# Altium schematic symbol library Minuterie_SCH.SchLib: 14 symbols
Pins are listed as number, name and electrical type; pins without a type are passive.

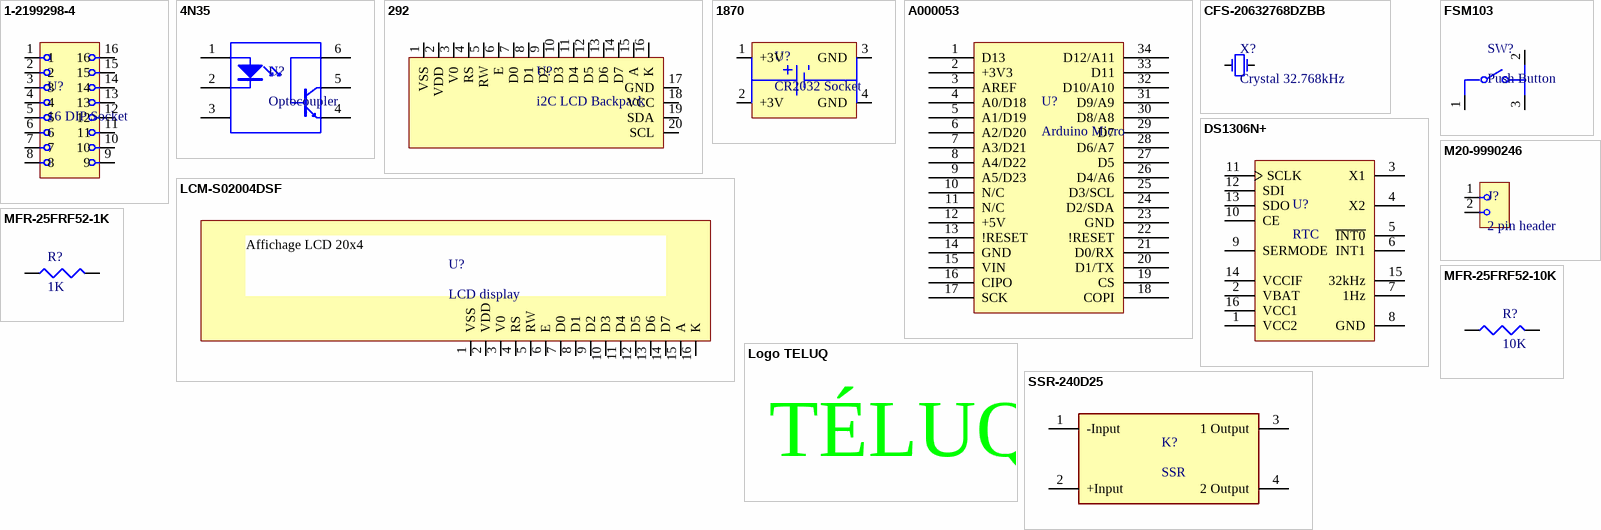
[diagram p0: symbols 1-2199298-4 to SSR-240D25]

## 1-2199298-4
designator U?, comment 16 DIP Socket
DIP Socket Connector, 16 Position, 2 Row, 7.62 mm Pitch, Diplomate Series; Manufacturer: TE Connectivity; Manufacturer Part Number: 1-2199298-4; Number of Contacts: 16; Contact Resistance: 20mR; Connector Type: Pin; Insulation Resistance: 1GR; Mating Alignment: Yes (With); Contact Current Rating: 1A; Pitch: 2.54mm; Row Spacing: 0.3inch; Contact Post Length: 3inch; Supplier 1: Digi-Key; RoHS: Yes; Category: IC and Component Sockets; Stock 1: 6797; Pricing 1: 1=0.27000, 10=0.23200, 25=0.20400, 40=0.18750, 80=0.18013, 230=0.16174, 440=0.15436, 945=0.12865, 2400=0.11762 (USD); Mount: Through Hole; Contact Material: Bronze; Contact Plating: Tin; Color: Black; Housing Material: PBT; Min Operating Temperature: -40°C; Max Operating Temperature: 105°C; Packaging: Rail/Tube; Number of Rows: 2; Termination: Through Hole; Orientation: Straight; Number of Positions: 16; Package Quantity: 30; Length: 0.8inch; Lead Pitch: 2.54mm; Depth: 10mm; Radiation Hardening: No; REACH SVHC: Unknown; Flammability Rating: UL94 V-0; ELV: Compliant; RoHS Compliant: Yes; ComponentLink1URL: http://components.arrow.com/part/dataview/65917491S799835N5665?src-supplier=Arrow+Electronics; ComponentLink1Description: http://components.arrow.com/part/dataview/65917491S799835N5665?src-supplier=Arrow+Electronics; ComponentLink2URL: http://www.te.com/commerce/DocumentDelivery/DDEController?Action=showdoc&DocId=Customer+Drawing%7F2199298%7FA%7Fpdf%7FEnglish%7FENG_CD_2199298_A_baseFilename.pdf%7F1-2199298-4&src-supplier=Avnet; ComponentLink2Description: http://www.te.com/commerce/DocumentDelivery/DDEController?Action=showdoc&DocId=Customer+Drawing%7F2199298%7FA%7Fpdf%7FEnglish%7FENG_CD_2199298_A_baseFilename.pdf%7F1-2199298-4&src-supplier=Avnet; ComponentLink3URL: https://www.te.com/commerce/DocumentDelivery/DDEController?Action=srchrtrv&amp;DocNm=2199298&amp;DocType=Customer+Drawing&amp;DocLang=English&src-supplier=Digi-Key; ComponentLink3Description: https://www.te.com/commerce/DocumentDelivery/DDEController?Action=srchrtrv&amp;DocNm=2199298&amp;DocType=Customer+Drawing&amp;DocLang=English&src-supplier=Digi-Key; Supplier Part Number 1: A120349-ND
footprint DIP16
pins: 1, 2, 3, 4, 5, 6, 7, 8, 9, 10, 11, 12, 13, 14, 15, 16

## 4N35
designator U?, comment Optocoupler
Single Channel 80 V 5000 Vrms Phototransistor Optocoupler Through Hole - DIP-6; Manufacturer: Vishay; Manufacturer Part Number: 4N35; Max Power Dissipation: 70mW; Number of Channels: 1; Isolation Voltage: 5kV; Output Voltage: 30V; Forward Voltage: 1.5V; Collector Emitter Voltage (VCEO): 70V; Max Input Current: 60mA; Reverse Breakdown Voltage: 6V; Forward Current: 50mA; Collector Emitter Saturation Voltage: 300mV; Rise Time: 3us; Input Current: 10mA; Input Type: DC; Isolation Voltage-Max: 5.3kV; Current Transfer Ratio: 50%; Output Current per Channel: 100mA; Approvals: UL,BSI,FIMKO; Supplier 1: Digi-Key; RoHS: Yes; Category: Optocouplers; Stock 1: 2871; Pricing 1: 1=0.55000, 10=0.47300, 100=0.35320, 500=0.27750, 1000=0.21444, 2000=0.19552, 5000=0.18290, 10000=0.17850 (USD); Mount: Through Hole; Case/Package: DIP; Number of Pins: 6; Min Operating Temperature: -55°C; Max Operating Temperature: 100°C; Packaging: Rail/Tube; Package Quantity: 2000; Power Dissipation: 70mW; Max Output Voltage: 30V; Number of Elements: 1; Series: -; Number of Circuits: 1; Collector-emitter Voltage-Max: 300mV; Max Collector Current: 100mA; Collector Emitter Breakdown Voltage: 30V; Reverse Voltage (DC): 6V; Radiation Hardening: No; Lead Free: Lead Free; RoHS Compliant: Yes; REACH SVHC: Unknown; ComponentLink1URL: https://datasheet.ciiva.com/1247/1693303-1247044.pdf?src-supplier=Element14; ComponentLink1Description: https://datasheet.ciiva.com/1247/1693303-1247044.pdf?src-supplier=Element14; ComponentLink2URL: https://datasheet.ciiva.com/26321/60647-26321011.pdf?src-supplier=Element14; ComponentLink2Description: https://datasheet.ciiva.com/26321/60647-26321011.pdf?src-supplier=Element14; ComponentLink3URL: https://datasheet.ciiva.com/15118/getdatasheetpartid-89490-15118529.pdf?src-supplier=Verical; ComponentLink3Description: https://datasheet.ciiva.com/15118/getdatasheetpartid-89490-15118529.pdf?src-supplier=Verical; ComponentLink4URL: https://datasheet.ciiva.com/11771/0900766b80dca9c8-11771779.pdf?src-supplier=RSComponents; ComponentLink4Description: https://datasheet.ciiva.com/11771/0900766b80dca9c8-11771779.pdf?src-supplier=RSComponents; ComponentLink5URL: https://datasheet.ciiva.com/29301/152890-da-01-en-optocoupler-4n35-29301371.pdf?src-supplier=Conrad; ComponentLink5Description: https://datasheet.ciiva.com/29301/152890-da-01-en-optocoupler-4n35-29301371.pdf?src-supplier=Conrad; ComponentLink6URL: https://datasheet.ciiva.com/2086/s-110-4n354n37m-s-s-ta1rev-2086319.pdf?src-supplier=Digi-Key; ComponentLink6Description: https://datasheet.ciiva.com/2086/s-110-4n354n37m-s-s-ta1rev-2086319.pdf?src-supplier=Digi-Key; ComponentLink7URL: https://datasheet.ciiva.com/14105/4n35-7-eng-tds-14105851.pdf?src-supplier=Distrelec; ComponentLink7Description: https://datasheet.ciiva.com/14105/4n35-7-eng-tds-14105851.pdf?src-supplier=Distrelec; ComponentLink8URL: https://datasheet.ciiva.com/3305/4n35-3305941.pdf?src-supplier=Avnet; ComponentLink8Description: https://datasheet.ciiva.com/3305/4n35-3305941.pdf?src-supplier=Avnet; ComponentLink9URL: https://datasheet.ciiva.com/16317/4n35-16317882.pdf?src-supplier=Future+Electronics; ComponentLink9Description: https://datasheet.ciiva.com/16317/4n35-16317882.pdf?src-supplier=Future+Electronics; ComponentLink10URL: https://datasheet.ciiva.com/25900/4n35-25900614.pdf?src-supplier=Avnet+Europe; ComponentLink10Description: https://datasheet.ciiva.com/25900/4n35-25900614.pdf?src-supplier=Avnet+Europe; ComponentLink11URL: https://datasheet.ciiva.com/2087/4n35-2087114.pdf?src-supplier=Digi-Key; ComponentLink11Description: https://datasheet.ciiva.com/2087/4n35-2087114.pdf?src-supplier=Digi-Key; ComponentLink12URL: https://datasheet.ciiva.com/1333/1533488-1333901.pdf?src-supplier=Newark; ComponentLink12Description: https://datasheet.ciiva.com/1333/1533488-1333901.pdf?src-supplier=Newark
footprint DIP6
pins: 1 A, 2 C, 3 NC, 4 E, 5 C, 6 B

## 292
designator U?, comment i2C LCD Backpack
i2c / SPI character LCD backpack ;RoHS Compliant: Yes; Manufacturer: Adafruit Industries; Manufacturer Part Number: 292; Supplier 1: Digi-Key; RoHS: Yes; Category: Optoelectronics; Stock 1: 105; Pricing 1: 1=9.95000 (USD); Series: -; ComponentLink1URL: http://www.alliedelec.com/m/d/fbf915f4a11a953f4c276fdc61ad8095.pdf?src-supplier=Allied+Electronics; ComponentLink1Description: http://www.alliedelec.com/m/d/fbf915f4a11a953f4c276fdc61ad8095.pdf?src-supplier=Allied+Electronics; ComponentLink2URL: https://learn.adafruit.com/downloads/pdf/i2c-spi-lcd-backpack.pdf?src-supplier=Digi-Key; ComponentLink2Description: https://learn.adafruit.com/downloads/pdf/i2c-spi-lcd-backpack.pdf?src-supplier=Digi-Key; Supplier Part Number 1: 1528-1446-ND
pins: 1 VSS, 2 VDD, 3 V0, 4 RS, 5 RW, 6 E, 7 D0, 8 D1, 9 D2, 10 D3, 11 D4, 12 D5, 13 D6, 14 D7, 15 A, 16 K, 17 GND, 18 VCC, 19 SDA, 20 SCL

## 1870
designator U?, comment CR2032 Socket
Heyco RDD Lockit Strain Relief Bushings Straight-Thru RDD 101A BLACK; Manufacturer: Adafruit Industries; Manufacturer Part Number: 1870; Supplier 1: Digi-Key; RoHS: Yes; Category: Connectors; Stock 1: 500; Pricing 1: 1=2.50000 (USD); Supplier Part Number 1: 1528-2012-ND
footprint Battery socket
pins: 1 +3V, 2 +3V, 3 GND, 4 GND

## A000053
designator U?, comment Arduino Micro
ATmega32u4 Microcontroller Micro Development Board 16MHz CPU 2.5KB RAM 1KB/32KB EEPROM/Flash; Manufacturer Part Number: A000053; Core Architecture: AVR; Evaluation Kit: Yes; Number of Bits: 8; Interface: USB; Data Bus Width: 8b; Operating Supply Voltage: 5V; Supplier 1: Digi-Key; Manufacturer: Arduino; RoHS: Yes; Category: Embedded Processors and Controllers; Stock 1: 535; Pricing 1: 1=20.70000 (USD); Weight: 0.02lb; Package Quantity: 1; Series: AVR® ATmega; Length: 2inch; Width: 1inch; Height: 0.05inch; REACH SVHC: Unknown; ComponentLink1URL: https://datasheet.ciiva.com/29354/a000053-web-29354346.pdf?src-supplier=Digi-Key; ComponentLink1Description: https://datasheet.ciiva.com/29354/a000053-web-29354346.pdf?src-supplier=Digi-Key; ComponentLink2URL: https://datasheet.ciiva.com/20168/73-4614-20168561.pdf?src-supplier=Rapid+Electronics; ComponentLink2Description: https://datasheet.ciiva.com/20168/73-4614-20168561.pdf?src-supplier=Rapid+Electronics; ComponentLink3URL: https://datasheet.ciiva.com/27059/2207700-27059801.pdf?src-supplier=Jameco; ComponentLink3Description: https://datasheet.ciiva.com/27059/2207700-27059801.pdf?src-supplier=Jameco; ComponentLink4URL: https://datasheet.ciiva.com/22632/1685581-22632353.pdf?src-supplier=Element14; ComponentLink4Description: https://datasheet.ciiva.com/22632/1685581-22632353.pdf?src-supplier=Element14; ComponentLink5URL: https://datasheet.ciiva.com/14175/micro-eng-tds-14175737.pdf?src-supplier=Distrelec; ComponentLink5Description: https://datasheet.ciiva.com/14175/micro-eng-tds-14175737.pdf?src-supplier=Distrelec; ComponentLink6URL: https://datasheet.ciiva.com/25630/0900766b8119187a-25630646.pdf?src-supplier=RSComponents; ComponentLink6Description: https://datasheet.ciiva.com/25630/0900766b8119187a-25630646.pdf?src-supplier=RSComponents; Supplier Part Number 1: 1050-1066-ND
footprint Micro-C
pins: 1 D13, 2 +3V3, 3 AREF, 4 A0/D18, 5 A1/D19, 6 A2/D20, 7 A3/D21, 8 A4/D22, 9 A5/D23, 10 N/C, 11 N/C, 12 +5V, 13 !RESET, 14 GND, 15 VIN, 16 CIPO, 17 SCK, 18 COPI, 19 CS, 20 D1/TX, 21 D0/RX, 22 !RESET, 23 GND, 24 D2/SDA, 25 D3/SCL, 26 D4/A6, 27 D5, 28 D6/A7, 29 D7, 30 D8/A8, 31 D9/A9, 32 D10/A10, 33 D11, 34 D12/A11

## CFS-20632768DZBB
designator X?, comment Crystal 32.768kHz
Crystal 0.032768MHz ±20ppm (Tol) 6pF Flexural 35000Ohm 2-Pin Thru-Hole Bulk; Manufacturer: Citizen; Manufacturer Part Number: CFS-20632768DZBB; ESR (Equivalent Series Resistance): 35kR; Supplier 1: Digi-Key; RoHS: Yes; Category: Crystals; Stock 1: 136913; Pricing 1: 1=0.26000, 10=0.22000, 50=0.19800, 100=0.17600, 500=0.16720, 1000=0.14080, 2500=0.13200, 5000=0.12760, 10000=0.12320 (USD); Mount: Through Hole; Case/Package: Radial; Min Operating Temperature: -20°C; Max Operating Temperature: 70°C; Load Capacitance: 6pF; Packaging: Bulk; Frequency: 32.768kHz; Frequency Tolerance: 20ppm; Lead Free: Lead Free; RoHS Compliant: Yes; ComponentLink1URL: http://cfd.citizen.co.jp/english/prod-tech/product/pdf/datasheet_TF/CFS-206_CFS-145_E.pdf?src-supplier=Digi-Key; ComponentLink1Description: http://cfd.citizen.co.jp/english/prod-tech/product/pdf/datasheet_TF/CFS-206_CFS-145_E.pdf?src-supplier=Digi-Key; Supplier Part Number 1: 300-8301-ND
footprint Crystal
pins: 1 X1, 2 X2

## DS1306N+
designator U?, comment RTC
DS1306 Series 2 to 5.5 V 96B Battery-Backed NV RAM Serial Alarm RTC - DIP-16; Manufacturer: Maxim; Manufacturer Part Number: DS1306N+; Time Format: HH:MM:SS; Interface: SPI; Logic Function: Clock; Date Format: YY-MM-DD-dd; Max Supply Voltage: 5.5V; Min Supply Voltage: 2V; Supplier 1: Newark; RoHS: Yes; Category: Real Time Clocks; Stock 1: 3; Pricing 1: 1=7.69000, 10=6.94000, 25=6.62000, 50=6.19000, 100=5.75000, 250=5.49000 (USD); Mount: Through Hole; Case/Package: DIP; Number of Pins: 16; Min Operating Temperature: 0°C; Max Operating Temperature: 70°C; Package Quantity: 25; Packaging: Rail/Tube; Memory Size: 96B; Series: -; Length: 19.43mm; Width: 7.87mm; Height: 4.45mm; Radiation Hardening: No; Lead Free: Lead Free; RoHS Compliant: Yes; REACH SVHC: Unknown; ComponentLink1URL: https://datasheet.ciiva.com/26795/ds1306n-26795569.pdf?src-supplier=IIIC; ComponentLink1Description: https://datasheet.ciiva.com/26795/ds1306n-26795569.pdf?src-supplier=IIIC; ComponentLink2URL: https://datasheet.ciiva.com/3304/ds1306-3304455.pdf?src-supplier=Avnet; ComponentLink2Description: https://datasheet.ciiva.com/3304/ds1306-3304455.pdf?src-supplier=Avnet; ComponentLink3URL: https://datasheet.ciiva.com/1240/ds1306-1240611.pdf?src-supplier=Digi-Key; ComponentLink3Description: https://datasheet.ciiva.com/1240/ds1306-1240611.pdf?src-supplier=Digi-Key; Supplier Part Number 1: 73Y1205
footprint DIP16
pins: 1 VCC2 (power), 2 VBAT (power), 3 X1, 4 X2, 5 ~{INT0} (oc), 6 INT1, 7 1Hz (oc), 8 GND (power), 9 SERMODE, 10 CE, 11 SCLK, 12 SDI, 13 SDO, 14 VCCIF (power), 15 32kHz, 16 VCC1 (power)

## FSM103
designator SW?, comment Push Button
Switch Tactile OFF (ON) SPST Round Button PC Pins 0.05A 24VDC 1.57N Thru-Hole Loose; Manufacturer: TE Connectivity Alcoswitch; Manufacturer Part Number: FSM103; Mechanical Life: 100000Cycles; Actuator Color: Black; Actuator Material: Polyester; Current Rating: 50mA; Voltage Rating (DC): 12V; Illumination Type: Non-Illuminated; Switch Travel: 0.3mm; Switch Function: Off-Mom; Contact Resistance: 100mR; Voltage Rating: 24V; Actuator Length: 3.4mm; Supplier 1: Digi-Key; RoHS: Yes; Category: Uncategorized; Stock 1: 1345; Pricing 1: 1=0.38000, 10=0.36900, 25=0.34720, 100=0.30150, 250=0.27348, 500=0.25440, 1000=0.22896, 2500=0.21497, 5000=0.19970 (USD); Mount: Through Hole; Contact Material: Brass; Contact Plating: Silver; Min Operating Temperature: -35°C; Max Operating Temperature: 85°C; Packaging: Loose Piece; Operating Force: 1.57N; Package Quantity: 400; Throw Configuration: SPST; Termination: PC Pins; Max Voltage Rating (DC): 12V; Series: FSM100 ~ 104; Contact Current Rating: 50mA; Orientation: Straight; Max Current Rating: 50mA; Electrical Life: 100000Cycles; Type: Switch; Length: 12mm; Width: 12mm; Depth: 14.1mm; Radiation Hardening: No; RoHS Compliant: Yes; REACH SVHC: Unknown; ComponentLink1URL: https://datasheet.ciiva.com/8661/eng-cd-1437565-5-d-8661873.pdf?src-supplier=Avnet; ComponentLink1Description: https://datasheet.ciiva.com/8661/eng-cd-1437565-5-d-8661873.pdf?src-supplier=Avnet; ComponentLink2URL: https://datasheet.ciiva.com/2899/eng-cd-1437565-5-e2-2899955.pdf?src-supplier=Digi-Key; ComponentLink2Description: https://datasheet.ciiva.com/2899/eng-cd-1437565-5-e2-2899955.pdf?src-supplier=Digi-Key; ComponentLink3URL: https://datasheet.ciiva.com/5809/eng-cd-1437565-5-e2-5809302.pdf?src-supplier=Farnell; ComponentLink3Description: https://datasheet.ciiva.com/5809/eng-cd-1437565-5-e2-5809302.pdf?src-supplier=Farnell; ComponentLink4URL: https://datasheet.ciiva.com/16534/eng-cd-1437565-5-d-16534933.pdf?src-supplier=Avnet+Europe; ComponentLink4Description: https://datasheet.ciiva.com/16534/eng-cd-1437565-5-d-16534933.pdf?src-supplier=Avnet+Europe; ComponentLink5URL: https://datasheet.ciiva.com/31838/eng-cat-1308390-0904-e15-e25-31838910.pdf?src-supplier=Onlinecomponents.com; ComponentLink5Description: https://datasheet.ciiva.com/31838/eng-cat-1308390-0904-e15-e25-31838910.pdf?src-supplier=Onlinecomponents.com; ComponentLink6URL: https://datasheet.ciiva.com/7635/921681-7635435.pdf?src-supplier=Element14; ComponentLink6Description: https://datasheet.ciiva.com/7635/921681-7635435.pdf?src-supplier=Element14; Supplier Part Number 1: 450-1158-ND
footprint Push button
pins: 1, 2, 3

## LCM-S02004DSF
designator U?, comment LCD display
LCD Character Display Modules Gray Transflective Yl/Grn LED Backlight; Manufacturer: Lumex; Manufacturer Part Number: LCM-S02004DSF; Interface: Parallel; Number of Characters: 80; Background Color: Green; Operating Supply Voltage: 5V; Fluid Type: STN; Illumination Color: Yellow; Character Height: 4.75mm; Character Width: 2.95mm; Voltage Rating: 4.5V; Current Rating: 600mA; Number Of Characters Per Row: 20; Viewing Area (height): 26.3mm; Viewing Area (width): 77mm; Supplier 1: Digi-Key; RoHS: Yes; Category: LCD, OLED, Graphic Displays; Stock 1: 191; Pricing 1: 1=36.89000, 10=28.88400, 100=25.22990 (USD); Case/Package: Module; Weight: 0.0025lb; Min Operating Temperature: 0°C; Max Operating Temperature: 50°C; Backlight Type: LED; Package Quantity: 60; Packaging: Bulk; Length: 0.025inch; Width: 98mm; Height: 60mm; REACH SVHC: No SVHC; Lead Free: Lead Free; RoHS Compliant: Yes; ComponentLink1URL: https://datasheet.ciiva.com/2102/lcm-s02004dsf-2102223.pdf?src-supplier=Digi-Key; ComponentLink1Description: https://datasheet.ciiva.com/2102/lcm-s02004dsf-2102223.pdf?src-supplier=Digi-Key; ComponentLink2URL: https://datasheet.ciiva.com/1227/209734-1227267.pdf?src-supplier=Element14; ComponentLink2Description: https://datasheet.ciiva.com/1227/209734-1227267.pdf?src-supplier=Element14; ComponentLink3URL: https://datasheet.ciiva.com/1227/209734-1227268.pdf?src-supplier=Element14; ComponentLink3Description: https://datasheet.ciiva.com/1227/209734-1227268.pdf?src-supplier=Element14; ComponentLink4URL: https://datasheet.ciiva.com/14569/70127579-14569930.pdf?src-supplier=Allied+Electronics; ComponentLink4Description: https://datasheet.ciiva.com/14569/70127579-14569930.pdf?src-supplier=Allied+Electronics; Supplier Part Number 1: 67-1763-ND
pins: 1 VSS, 2 VDD, 3 V0, 4 RS, 5 RW, 6 E, 7 D0, 8 D1, 9 D2, 10 D3, 11 D4, 12 D5, 13 D6, 14 D7, 15 A, 16 K
text: Affichage LCD 20x4

## Logo TELUQ
designator *  (value not drawn)
footprint Logo TELQUQ
text: TÉLUQ

## M20-9990246
designator J?, comment 2 pin header
2.54mm (0.1") Pitch SIL Vertical PC Tail Pin Header, 6.1mm mating pin height, tin, 2 contacts; Manufacturer: Harwin; Manufacturer Part Number: M20-9990246; Max Current Rating: 3A; Number of Positions: 2; Gender: Male; Connector Type: Male Pin; Contact Resistance: 30mR; Insulation Resistance: 10GR; Voltage Rating (AC): 750V; Supplier 1: Digi-Key; RoHS: Yes; Category: Headers and Wire Housings; Stock 1: 37006; Pricing 1: 1=0.13000, 10=0.10300, 100=0.07610, 500=0.06300, 1000=0.05512, 5000=0.04725, 10000=0.04594 (USD); Mount: Through Hole; Case/Package: SIL; Contact Plating: Tin; Color: Black; Contact Material: Brass,Bronze; Housing Color: Black; Housing Material: Nylon; Min Operating Temperature: -40°C; Max Operating Temperature: 105°C; Number of Rows: 1; Package Quantity: 1000; Packaging: Bulk; Termination: Solder; Number of Contacts: 2; Orientation: Straight; Series: M20; Contact Type: Male Pin; Current Rating: 3A; Length: 5.08mm; Pitch: 2.54mm; Depth: 2.54mm; Contact Mating Length: 0.24inch; Radiation Hardening: No; REACH SVHC: No SVHC; ComponentLink1URL: https://datasheet.ciiva.com/22660/1830818-22660571.pdf?src-supplier=Element14; ComponentLink1Description: https://datasheet.ciiva.com/22660/1830818-22660571.pdf?src-supplier=Element14; ComponentLink2URL: https://datasheet.ciiva.com/11745/0900766b81034e61-11745755.pdf?src-supplier=RSComponents; ComponentLink2Description: https://datasheet.ciiva.com/11745/0900766b81034e61-11745755.pdf?src-supplier=RSComponents; ComponentLink3URL: https://datasheet.ciiva.com/8046/315376-8046930.pdf?src-supplier=Element14; ComponentLink3Description: https://datasheet.ciiva.com/8046/315376-8046930.pdf?src-supplier=Element14; ComponentLink4URL: https://datasheet.ciiva.com/6833/m20-999-6833368.pdf?src-supplier=Digi-Key; ComponentLink4Description: https://datasheet.ciiva.com/6833/m20-999-6833368.pdf?src-supplier=Digi-Key; ComponentLink5URL: https://datasheet.ciiva.com/26852/getdatasheetpartid-384170-26852203.pdf?src-supplier=Verical; ComponentLink5Description: https://datasheet.ciiva.com/26852/getdatasheetpartid-384170-26852203.pdf?src-supplier=Verical; Supplier Part Number 1: 952-2262-ND
footprint Dual header
pins: 1, 2

## MFR-25FRF52-1K
designator R?, comment 1K
Res Metal Film 1K Ohm 1% 0.25W(1/4W) ±100ppm/C AXL Automotive T/R; Manufacturer: Yageo; Manufacturer Part Number: MFR-25FRF52-1K; Resistance: 1kR; Power Rating: 250mW; Voltage Rating: 250V; Temperature Coefficient: 100ppm/°C; Voltage Rating (DC): 200V; Lead Diameter: 0.6mm; Supplier 1: Digi-Key; RoHS: Yes; Category: Through-Hole Resistors; Stock 1: 95000; Pricing 1: 5000=0.01047, 10000=0.00939, 25000=0.00862, 50000=0.00819 (USD); Mount: Through Hole; Case/Package: Axial; Min Operating Temperature: -55°C; Max Operating Temperature: 155°C; Packaging: Tape and Reel; Tolerance: 1%; Termination: Axial; Package Quantity: 5000; Resistor Type: Metal Film; Number of Terminations: 2; Max Power Dissipation: 250mW; Series: MFR; Length: 0.248inch; Width: 6.3mm; RoHS Compliant: Yes; Lead Free: Lead Free; ComponentLink1URL: https://datasheet.ciiva.com/25645/yageolr-mfr-2013-25645548.pdf?src-supplier=Digi-Key; ComponentLink1Description: https://datasheet.ciiva.com/25645/yageolr-mfr-2013-25645548.pdf?src-supplier=Digi-Key; Supplier Part Number 1: 1.00KXTR-ND
footprint Res_TH
pins: 1, 2

## MFR-25FRF52-10K
designator R?, comment 10K
Res Metal Film 10K Ohm 1% 1/4W ±100ppm/°C Conformal Axial Thru-Hole T/R; Manufacturer: Yageo; Manufacturer Part Number: MFR-25FRF52-10K; Resistance: 10kR; Power Rating: 250mW; Voltage Rating: 250V; Voltage Rating (DC): 200V; Lead Diameter: 0.6mm; Supplier 1: Digi-Key; RoHS: Yes; Category: Through-Hole Resistors; Stock 1: 345000; Pricing 1: 5000=0.01047, 10000=0.00939, 25000=0.00862, 50000=0.00819 (USD); Case/Package: Axial; Min Operating Temperature: -55°C; Max Operating Temperature: 155°C; Packaging: Tape and Reel; Package Quantity: 5000; Tolerance: 1%; Resistor Type: Metal Film; Termination: Axial; Number of Terminations: 2; Temperature Coefficient: 100ppm/°C; Max Power Dissipation: 250mW; Series: MFR; Length: 0.248inch; Width: 6.3mm; Lead Free: Lead Free; RoHS Compliant: Yes; ComponentLink1URL: https://datasheet.ciiva.com/25645/yageolr-mfr-2013-25645549.pdf?src-supplier=Digi-Key; ComponentLink1Description: https://datasheet.ciiva.com/25645/yageolr-mfr-2013-25645549.pdf?src-supplier=Digi-Key; Supplier Part Number 1: 10.0KXTR-ND
footprint Res_TH
pins: 1, 2

## SSR-240D25
designator K?, comment SSR
Relay SSR 15mA 32V DC-IN 25A 280V AC-OUT 4-Pin Hockey Puck; Manufacturer: TE Connectivity; Manufacturer Part Number: SSR-240D25; Throw Configuration: SPST; Voltage Rating (AC): 240V; Turn-On Delay Time: 8.3ms; Input Type: DC; Isolation Voltage: 4kV; Approvals: cULus; Supplier 1: Digi-Key; RoHS: Yes; Category: Solid State Relays; Stock 1: 288; Pricing 1: 1=38.22000, 10=36.30700, 25=34.39640, 50=32.48560, 100=30.57470, 250=28.66380 (USD); Mount: Chassis Mount; Number of Pins: 4; Min Operating Temperature: -20°C; Max Operating Temperature: 80°C; Current Rating: 25A; Package Quantity: 1; Packaging: Bulk; Termination: Screw; Load Current: 25A; Max Input Current: 15mA; Max Voltage Rating (DC): 32V; Input Current: 25A; Output Current: 25A; Relay Type: Relay; Nominal Input Voltage (DC): 32V; Max Output Voltage: 280V; Contact Current Rating: 25A; Series: SSR; Output Voltage: 240V; Control Voltage: 32V; Isolation Voltage-Max: 4kV; Length: 57.15mm; Width: 57.2mm; Height: 22.1mm; Depth: 44.45mm; Radiation Hardening: No; REACH SVHC: Unknown; Lead Free: Lead Free; ELV: Compliant; RoHS Compliant: Yes; ComponentLink1URL: https://datasheet.ciiva.com/2422/eng-ds-1308242-ssr-0214-ssr-pages-rev-2-18-14r-2422718.pdf?src-supplier=Digi-Key; ComponentLink1Description: https://datasheet.ciiva.com/2422/eng-ds-1308242-ssr-0214-ssr-pages-rev-2-18-14r-2422718.pdf?src-supplier=Digi-Key; ComponentLink2URL: https://datasheet.ciiva.com/30090/2eng-ds-1308242-ssr-0214-ssr-pages-rev-2-18-14r-30090666.pdf?src-supplier=Onlinecomponents.com; ComponentLink2Description: https://datasheet.ciiva.com/30090/2eng-ds-1308242-ssr-0214-ssr-pages-rev-2-18-14r-30090666.pdf?src-supplier=Onlinecomponents.com; ComponentLink3URL: https://datasheet.ciiva.com/30179/2eng-ds-1308242-ssr-0214-ssr-pages-rev-2-18-14r-30179866.pdf?src-supplier=Onlinecomponents.com; ComponentLink3Description: https://datasheet.ciiva.com/30179/2eng-ds-1308242-ssr-0214-ssr-pages-rev-2-18-14r-30179866.pdf?src-supplier=Onlinecomponents.com; ComponentLink4URL: https://datasheet.ciiva.com/6938/1624392-6938092.pdf?src-supplier=Newark; ComponentLink4Description: https://datasheet.ciiva.com/6938/1624392-6938092.pdf?src-supplier=Newark; ComponentLink5URL: https://datasheet.ciiva.com/7641/1624392-7641050.pdf?src-supplier=Element14; ComponentLink5Description: https://datasheet.ciiva.com/7641/1624392-7641050.pdf?src-supplier=Element14; ComponentLink6URL: https://datasheet.ciiva.com/49275/552892-49275095.pdf?src-supplier=Jameco; ComponentLink6Description: https://datasheet.ciiva.com/49275/552892-49275095.pdf?src-supplier=Jameco; Supplier Part Number 1: PB545-ND
pins: 1 -Input, 2 +Input, 3 1 Output, 4 2 Output